# Altium schematic symbol library eMMC_BGA153.SchLib: 1 symbol
Pins are listed as number, name and electrical type; pins without a type are passive.

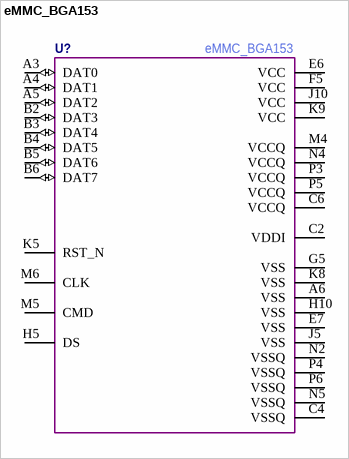
[diagram p0: symbol eMMC_BGA153]

## eMMC_BGA153
designator U?  Manufacturer Part Number: eMMC_BGA153  (hidden comment: *)
pins: A1 NC hidden, A2 NC hidden, A3 DAT0 (io), A4 DAT1 (io), A5 DAT2 (io), A6 VSS, A7 RFU hidden, A8 NC hidden, A9 NC hidden, A10 NC hidden, A11 NC hidden, A12 NC hidden, A13 NC hidden, A14 NC hidden, B1 NC hidden, B2 DAT3 (io), B3 DAT4 (io), B4 DAT5 (io), B5 DAT6 (io), B6 DAT7 (io), B7 NC hidden, B8 NC hidden, B9 NC hidden, B10 NC hidden, B11 NC hidden, B12 NC hidden, B13 NC hidden, B14 NC hidden, C1 NC hidden, C2 VDDI (power), C3 NC hidden, C4 VSSQ, C5 NC hidden, C6 VCCQ (power), C7 NC hidden, C8 NC hidden, C9 NC hidden, C10 NC hidden, C11 NC hidden, C12 NC hidden, C13 NC hidden, C14 NC hidden, D1 NC hidden, D2 NC hidden, D3 NC hidden, D4 NC hidden, D12 NC hidden, D13 NC hidden, D14 NC hidden, E1 NC hidden, E2 NC hidden, E3 NC hidden, E5 RFU hidden, E6 VCC (power), E7 VSS, E8 RFU hidden, E9 VSF hidden, E10 VSF hidden, E12 NC hidden, E13 NC hidden, E14 NC hidden, F1 NC hidden, F2 NC hidden, F3 NC hidden, F5 VCC (power), F10 VSF hidden, F12 NC hidden, F13 NC hidden, F14 NC hidden, G1 NC hidden, G2 NC hidden, G3 RFU hidden, G5 VSS, G10 RFU hidden, G12 NC hidden, G13 NC hidden, G14 NC hidden, H1 NC hidden, H2 NC hidden, H3 NC hidden, H5 DS, H10 VSS, H12 NC hidden, H13 NC hidden, H14 NC hidden, J1 NC hidden, J2 NC hidden, J3 NC hidden, J5 VSS, J10 VCC (power), J12 NC hidden, J13 NC hidden, J14 NC hidden, K1 NC hidden, K2 NC hidden, K3 NC hidden, K5 RST_N, K6 RFU hidden, K7 RFU hidden, K8 VSS, K9 VCC (power), K10 RFU hidden, K12 NC hidden, K13 NC hidden, K14 NC hidden, L1 NC hidden, L2 NC hidden, L3 NC hidden, L12 NC hidden, L13 NC hidden, L14 NC hidden, M1 NC hidden, M2 NC hidden, M3 NC hidden, M4 VCCQ (power), M5 CMD, M6 CLK, M7 NC hidden, M8 NC hidden, M9 NC hidden, M10 NC hidden, M11 NC hidden, M12 NC hidden, M13 NC hidden, M14 NC hidden, N1 NC hidden, N2 VSSQ, N3 NC hidden, N4 VCCQ (power), N5 VSSQ, N6 NC hidden, N7 NC hidden, N8 NC hidden, N9 NC hidden, N10 NC hidden, N11 NC hidden, N12 NC hidden, N13 NC hidden, N14 NC hidden, P1 NC hidden, P2 NC hidden, P3 VCCQ (power), P4 VSSQ, P5 VCCQ (power), P6 VSSQ, P7 RFU hidden, P8 NC hidden, P9 NC hidden, P10 RFU hidden, P11 NC hidden, P12 NC hidden, P13 NC hidden, P14 NC hidden